# Altium integrated library cam_sigorta.IntLib: 1 symbol
Pins are listed as number, name and electrical type; pins without a type are passive.

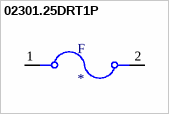
[diagram p0: symbol 02301.25DRT1P]

## 02301.25DRT1P
designator F
1.25A 250V AC 125V DC Fuse Cartridge, Glass Through Hole Cartridge, Non-Standard (Axial); MF: Littelfuse Inc.; MP: 02301.25DRT1P; SnapEDA_Link: https://www.snapeda.com/parts/02301.25DRT1P/Littelfuse%20Inc./view-part/423323/?ref=snap; Mouser-Purchase-URL: https://snapeda.com/shop?store=Mouser&id=423323; Value: *; Availability: Warning; Price: None; Package: Cartridge Non-Standard  Littelfuse Inc.
footprint FUSAD1930W64L1450D450P
pins: 1, 2